# Altium footprint library CeleronLib_Connect.PcbLib: 219 footprints (part 14 of 14)
Each footprint in its own frame and in the unit in brackets; x right, y up, seen from the top. Pads: shape width x height; smd on the part's side, far side on the other; paste and mask are expansions set on the pad; w line width, h text height; cw(c..) or ccw(c..) is an arc to the next point about the centre after c.
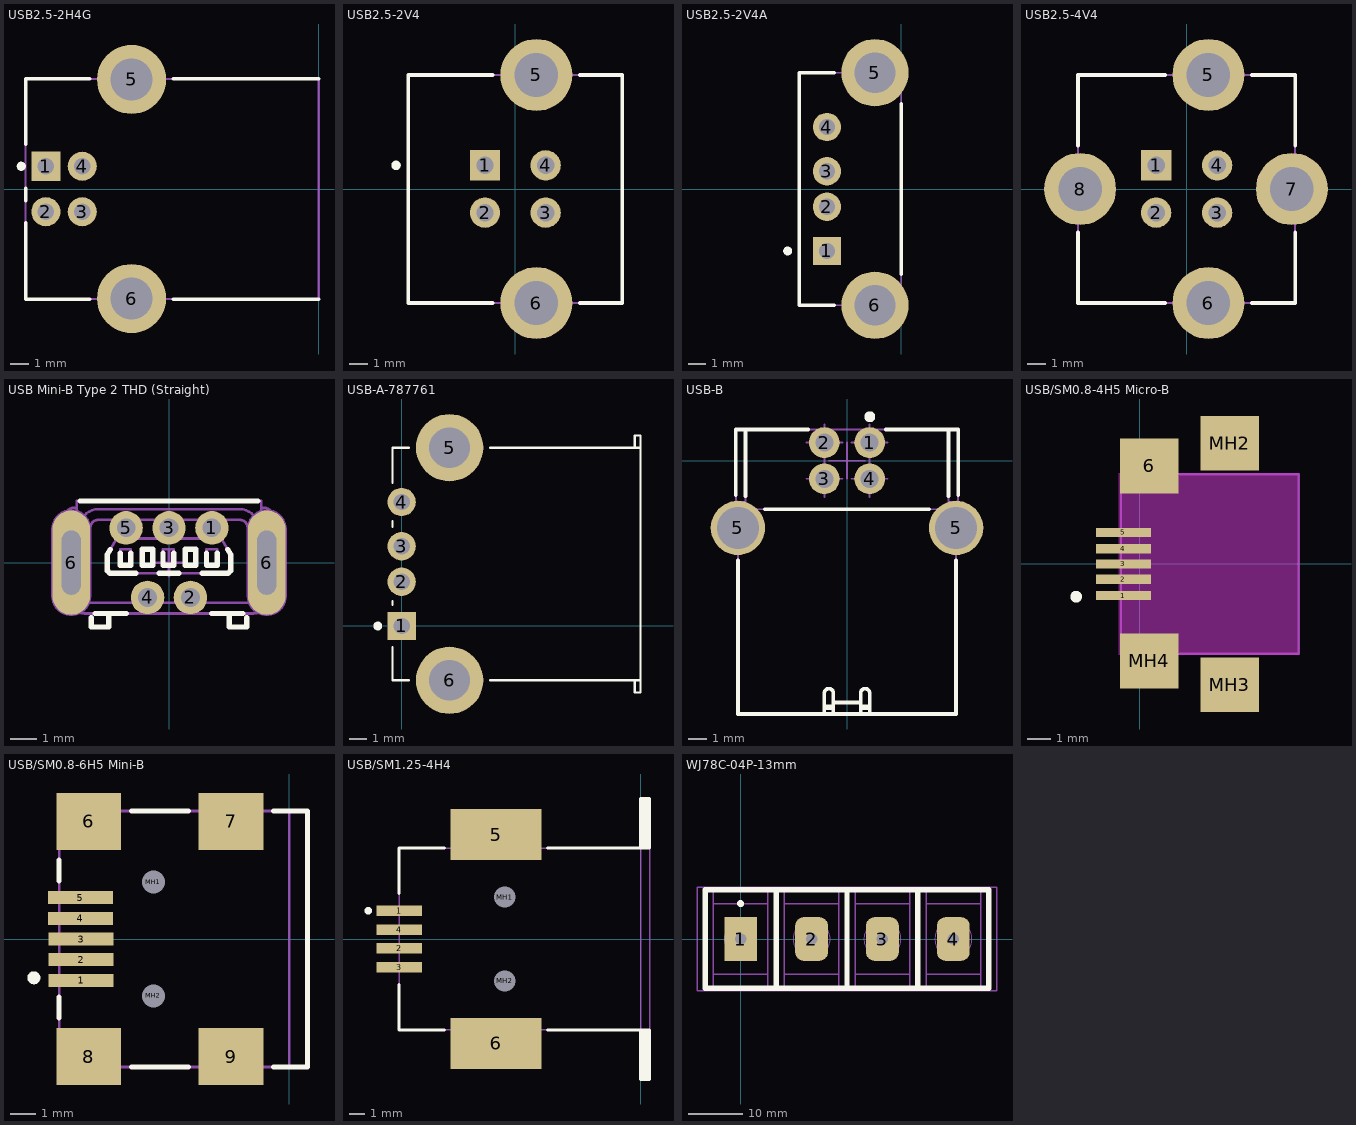
[diagram p13: the footprints below, top view; thin cyan lines are the x and y axes]

## USB2.5-2H4G [mm] "Connector; USB1.1, Type B, Thru-Hole; 4 Position; Right Angle"
height 10.95
pads (6):
  rect 1.6x1.6 hole 0.92: 1(-15.01,1.25)
  round 1.6 hole 0.92: 2(-15.01,-1.25) 3(-13.01,-1.25) 4(-13.01,1.25)
  round 3.8 hole 2.3: 5(-10.3,6.02) 6(-10.3,-6.02)
Top Overlay:
  circle w0.25: c-16.36,1.25 r0.125
  lines w0.2: -16.12,-1.85 -16.12,-6.05 -12.6,-6.05 ; -16.12,-0.65 -16.12,0.05 ; -16.12,2.45 -16.12,6.05 -12.6,6.05 ; -8,-6.05 -0.02,-6.05 ; -8,6.05 -0.02,6.05
Remarks:
  lines w0.1: 0,-6.05 0,6.05
  text "PCB Edge" at -0.325,-5.651 h0.25
Top 3D:
  lines w0.1: -16.12,-6.05 -0.02,-6.05 -0.02,6.05 -16.12,6.05 -16.12,-6.05
3D body: height 10.95, standoff 0, extent -16.12,-6.05 -0.02,6.05

## USB2.5-2V4 [mm] "Connector; USB1.1, Type B, Thru-Hole; 4 Position; Vertical"
height 16
pads (6):
  rect 1.6x1.6 hole 0.92: 1(-1.6,1.25)
  round 1.6 hole 0.92: 2(-1.6,-1.25) 3(1.6,-1.25) 4(1.6,1.25)
  round 3.8 hole 2.3: 5(1.11,6.02) 6(1.11,-6.02)
Top Overlay:
  circle w0.25: c-6.3,1.25 r0.125
  lines w0.2: -1.19,-6.02 -5.65,-6.02 -5.65,6.02 -1.19,6.02 ; 3.41,-6.02 5.65,-6.02 5.65,6.02 3.41,6.02
Top 3D:
  lines w0.1: -5.65,-6.02 5.65,-6.02 5.65,6.02 -5.65,6.02 -5.65,-6.02
3D body: height 16, standoff 0, extent -5.65,-6.02 5.65,6.02

## USB2.5-2V4A [mm] "Connector; USB1.1, Type A, Thru-Hole; 4 Position; Vertical"
height 15
pads (6):
  rect 1.6x1.6 hole 0.92: 1(-4.19,-3.5)
  round 1.6 hole 0.92: 2(-4.19,-1) 3(-4.19,1) 4(-4.19,3.5)
  round 3.8 hole 2.3: 5(-1.48,6.57) 6(-1.48,-6.57)
Top Overlay:
  circle w0.25: c-6.41,-3.5 r0.125
  lines w0.2: -3.78,-6.57 -5.76,-6.57 -5.76,6.57 -3.78,6.57 ; 0,-4.81 0,4.81
Top 3D:
  lines w0.1: -5.76,-6.57 0,-6.57 0,6.57 -5.76,6.57 -5.76,-6.57
3D body: height 15, standoff 0, extent -5.76,-6.57 0,6.57

## USB2.5-4V4 [mm] "Connector; USB1.1, Type B, Thru-Hole; 4 Position; Vertical"
height 15.62
pads (8):
  rect 1.6x1.6 hole 0.92: 1(-1.61,1.25)
  round 1.6 hole 0.92: 2(-1.61,-1.25) 3(1.61,-1.25) 4(1.61,1.25)
  round 3.8 hole 2.3: 5(1.15,6.02) 6(1.15,-6.02) 7(5.56,0) 8(-5.63,0)
Top Overlay:
  lines w0.2: -5.73,-2.3 -5.73,-6.02 -1.15,-6.02 ; -5.73,2.3 -5.73,6.02 -1.15,6.02 ; 3.45,-6.02 5.73,-6.02 5.73,-2.3 ; 3.45,6.02 5.73,6.02 5.73,2.3
Top 3D:
  lines w0.1: -5.73,-6.02 5.73,-6.02 5.73,6.02 -5.73,6.02 -5.73,-6.02
3D body: height 15.62, standoff 0, extent -5.73,-6.02 5.73,6.02

## USB Mini-B Type 2 THD (Straight) [mm] "Straight, USB Serie Mini-B Type 2 Through Hole Receptacle"
height 7.7
pads (7):
  round 1.25 hole 0.7: 1(1.6,1.3) 2(0.8,-1.3) 3(0,1.3) 4(-0.8,-1.3) 5(-1.6,1.3)
  oval 1.4x3.9 hole 0.7 slot 2.4 at 90 deg: 6(-3.65,0) 6(3.65,0)
Top Overlay:
  lines w0.2: -3.322,2.3 3.322,2.3 ; -2.9,-2.055 -2.9,-2.4 -2.25,-2.4 -2.25,-1.9 ; -2.763,-1.9 -1.6,-1.9 ; -2.189,0.492 -2.3,0.3 -2.3,-0.3 -2.2,-0.4 -1.236,-0.4 ; -1.825,0.35 -1.825,-0.1 -1.425,-0.1 -1.425,0.35 ; -0.364,-0.4 0.364,-0.4 ; -0.225,0.35 -0.225,-0.1 0.175,-0.1 0.175,0.35 ; 1.236,-0.4 2.2,-0.4 ; 1.4,0.35 1.4,-0.1 1.8,-0.1 1.8,0.35 ; 1.6,-1.9 2.763,-1.9 ; 2.189,0.492 2.3,0.3 2.3,-0.3 ; 2.25,-1.9 2.25,-2.4 2.9,-2.4 2.9,-2.055 ; 2.2,-0.4 2.3,-0.3 ; 2.2,-0.4 2.3,-0.3 ; -1,-0.1 -1,0.5 -0.6,0.5 -0.6,-0.1 -1,-0.1 ; 0.6,-0.1 0.6,0.5 1,0.5 1,-0.1 0.6,-0.1
Mechanical 8:
  lines w0.1: -4.15,0 -3.65,0 ; -3.65,-0.5 -3.65,0 ; -3.65,0.5 -3.65,0 ; -3.15,0 -3.65,0 ; -2.1,1.3 -1.6,1.3 ; -1.6,0.8 -1.6,1.3 ; -1.6,1.8 -1.6,1.3 ; -1.3,-1.3 -0.8,-1.3 ; -1.1,1.3 -1.6,1.3 ; -0.8,-1.8 -0.8,-1.3 ; -0.8,-0.8 -0.8,-1.3 ; -0.5,0 0,0 ; -0.5,1.3 0,1.3 ; -0.3,-1.3 -0.8,-1.3 ; 0,-0.5 0,0 ; 0,0.5 0,0 ; 0,0.8 0,1.3 ; 0,1.8 0,1.3 ; 0.3,-1.3 0.8,-1.3 ; 0.5,0 0,0 ; 0.5,1.3 0,1.3 ; 0.8,-1.8 0.8,-1.3 ; 0.8,-0.8 0.8,-1.3 ; 1.1,1.3 1.6,1.3 ; 1.3,-1.3 0.8,-1.3 ; 1.6,0.8 1.6,1.3 ; 1.6,1.8 1.6,1.3 ; 2.1,1.3 1.6,1.3 ; 3.15,0 3.65,0 ; 3.65,-0.5 3.65,0 ; 3.65,0.5 3.65,0 ; 4.15,0 3.65,0 ; -4.35,-1.25 ccw(c-3.65,-1.25) -2.95,-1.25 -2.95,1.25 ccw(c-3.65,1.25) -4.35,1.25 -4.35,-1.25 ; -3.975,-0.875 ccw(c-3.65,-0.875) -3.325,-0.875 -3.325,0.875 ccw(c-3.65,0.875) -3.975,0.875 -3.975,-0.875 ; 2.95,-1.25 ccw(c3.65,-1.25) 4.35,-1.25 4.35,1.25 ccw(c3.65,1.25) 2.95,1.25 2.95,-1.25 ; 3.325,-0.875 ccw(c3.65,-0.875) 3.975,-0.875 3.975,0.875 ccw(c3.65,0.875) 3.325,0.875 3.325,-0.875
Top Assy:
  lines w0.1: -3.45,0.288 -3.45,2.3 3.45,2.3 3.45,0.288 ; -3.45,2.05 -3.55,2.05 ccw(c-3.55,1.75) -3.85,1.75 -3.85,-0.403 ; -2.9,-1.9 -2.9,-2.4 -2.25,-2.4 -2.25,-1.9 ; 2.25,-1.9 2.25,-2.4 2.9,-2.4 2.9,-1.9 ; 3.45,2.05 3.55,2.05 cw(c3.55,1.75) 3.85,1.75 3.85,-0.403 ; -3.85,-0.403 cw(c-3.15,-0.403) -3.647,0.089 -3.422,0.317 ccw(c-3.635,0.528) -3.335,0.528 -3.335,1.3 cw(c-2.635,1.3) -2.635,2 2.635,2 cw(c2.635,1.3) 3.335,1.3 3.335,0.528 ccw(c3.635,0.528) 3.422,0.317 3.647,0.089 cw(c3.15,-0.403) 3.85,-0.403 ; -3.85,-0.403 -3.85,-1.2 ccw(c-3.15,-1.2) -3.15,-1.9 3.15,-1.9 ccw(c3.15,-1.2) 3.85,-1.2 3.85,-0.403 ; 2.2,-0.4 2.3,-0.3 ; 2.2,-0.4 -2.2,-0.4 -2.3,-0.3 -2.3,0.3 -1.838,1.1 -1.318,1.1 -1.118,0.9 1.118,0.9 1.318,1.1 1.838,1.1 2.3,0.3 2.3,-0.3 ; 2.2,-0.4 2.3,-0.3 ; -3.45,-1.2 ccw(c-3.15,-1.2) -3.15,-1.5 3.15,-1.5 ccw(c3.15,-1.2) 3.45,-1.2 3.45,-0.403 ccw(c3.15,-0.403) 3.363,-0.192 3.138,0.035 cw(c3.635,0.528) 2.935,0.528 2.935,1.3 ccw(c2.635,1.3) 2.635,1.6 -2.635,1.6 ccw(c-2.635,1.3) -2.935,1.3 -2.935,0.528 cw(c-3.635,0.528) -3.138,0.035 -3.363,-0.192 ccw(c-3.15,-0.403) -3.45,-0.403 -3.45,-1.2 ; -1.825,-0.1 -1.825,0.5 -1.425,0.5 -1.425,-0.1 -1.825,-0.1 ; -1,-0.1 -1,0.5 -0.6,0.5 -0.6,-0.1 -1,-0.1 ; -0.225,-0.1 -0.225,0.5 0.175,0.5 0.175,-0.1 -0.225,-0.1 ; 0.6,-0.1 0.6,0.5 1,0.5 1,-0.1 0.6,-0.1 ; 1.4,-0.1 1.4,0.5 1.8,0.5 1.8,-0.1 1.4,-0.1
3D body: height 7.7, standoff -2.1, extent -3.85,-2.4 3.85,2.3

## USB-A-787761 [mm] "Connector; USB1.1, Type A, Thru-Hole; 4 Position; Right Angle"
height 7.01
pads (6):
  rect 1.6x1.6 hole 0.92: 1(0,0)
  round 1.6 hole 0.92: 2(0,2.5) 3(0,4.5) 4(0,7)
  round 3.8 hole 2.3: 5(2.71,10.07) 6(2.71,-3.07)
Top Overlay:
  circle w0.25: c-1.35,0 r0.125
  lines w0.127: -0.51,-1.2 -0.51,-3.065 0.41,-3.065 ; -0.51,1.2 -0.51,1.41 ; -0.51,5.59 -0.51,5.91 ; -0.51,8.09 -0.51,10.065 0.41,10.065 ; 5.01,-3.065 13.49,-3.065 ; 5.01,10.065 13.49,10.065 ; 13.17,-3.065 13.17,-3.75 13.49,-3.75 13.49,-3.065 ; 13.17,10.065 13.17,10.75 13.49,10.75 13.49,10.065 ; 13.49,-3.065 13.49,10.065

## USB-B [mm] "Thru Hole, Right Angle, 4 Position, Type B, USB Receptacle"
height 11.5
pads (6):
  round 1.7 hole 1: 1(1.25,1) 2(-1.25,1) 3(-1.25,-1) 4(1.25,-1)
  round 3 hole 2.3: 5(-6.02,-3.71) 5(6.02,-3.71)
Top Overlay:
  circle w0.3: c1.257,2.427 r0.15
  lines w0.2: -6.13,-1.913 -6.13,1.72 -2.147,1.72 ; -6.018,-5.51 -6.018,-13.98 6.018,-13.98 6.018,-5.51 ; -5.6,-1.96 -5.6,1.72 ; -4.544,-2.68 4.544,-2.68 ; -1.25,-13.98 -1.25,-12.832 cw(c-1,-12.83) -0.75,-12.832 -0.75,-13.98 ; -1.25,-13.662 -0.75,-13.662 ; -1.25,-13.568 -0.75,-13.568 ; -0.75,-13.342 0.75,-13.342 ; 0.75,-13.98 0.75,-12.832 cw(c1,-12.83) 1.25,-12.832 1.25,-13.98 ; 0.75,-13.662 1.25,-13.662 ; 0.75,-13.568 1.25,-13.568 ; 2.147,1.72 6.13,1.72 6.13,-1.913 ; 5.6,-1.96 5.6,1.72
Mechanical 8:
  lines w0.1: -7.02,-3.71 -6.02,-3.71 ; -6.02,-4.71 -6.02,-3.71 ; -6.02,-2.71 -6.02,-3.71 ; -5.02,-3.71 -6.02,-3.71 ; -2.25,-1 -1.25,-1 ; -2.25,1 -1.25,1 ; -1.25,-2 -1.25,-1 ; -1.25,2 -1.25,1 ; -1,0 0,0 ; -0.25,-1 -1.25,-1 ; -0.25,1 -1.25,1 ; 0,-1 0,0 ; 0,1 0,0 ; 0.25,-1 1.25,-1 ; 0.25,1 1.25,1 ; 1,0 0,0 ; 1.25,-2 1.25,-1 ; 1.25,2 1.25,1 ; 2.25,-1 1.25,-1 ; 2.25,1 1.25,1 ; 5.02,-3.71 6.02,-3.71 ; -1.25,-1 -1.25,0 -1.25,1 ; 1.25,-1 1.25,0 1.25,1 ; 6.02,-4.71 6.02,-3.71 ; 6.02,-4.71 6.02,-3.71 ; 6.02,-4.71 6.02,-3.71 ; 6.02,-3.71 7.02,-3.71 ; 6.02,-3.71 6.02,-2.71 ; 6.02,-3.71 7.02,-3.71 ; 6.02,-3.71 6.02,-2.71 ; 6.02,-3.71 7.02,-3.71 ; 6.02,-3.71 6.02,-2.71
Top Assy:
  lines w0.1: -6.13,-4.608 -6.13,-4.81 -6.018,-5.057 ; -6.018,-4.619 -7.096,-4.511 ; -6.018,-2.781 -7.096,-2.889 ; -5.6,-2.68 -5.6,1.72 ; -5.6,-2.28 -6.13,-2.28 -6.13,1.72 6.13,1.72 6.13,-2.28 5.6,-2.28 ; -1.25,-13.98 -1.25,-12.832 cw(c-1,-12.83) -0.75,-12.832 -0.75,-13.98 ; -1.25,-13.662 -0.75,-13.662 ; -1.25,-13.568 -0.75,-13.568 ; -0.75,-13.342 0.75,-13.342 ; 0.75,-13.98 0.75,-12.832 cw(c1,-12.83) 1.25,-12.832 1.25,-13.98 ; 0.75,-13.662 1.25,-13.662 ; 0.75,-13.568 1.25,-13.568 ; 5.6,-2.68 5.6,1.72 ; 6.018,-5.057 6.13,-4.81 6.13,-4.608 ; 6.018,-4.619 7.096,-4.511 ; 6.018,-2.781 7.096,-2.889 ; -7.096,-4.511 -7.162,-4.5 -7.192,-4.486 -7.195,-4.479 -7.195,-2.921 -7.192,-2.914 -7.162,-2.9 -7.096,-2.889 ; -7.096,-4.511 -7.096,-2.889 ; 7.096,-4.511 7.162,-4.5 7.192,-4.486 7.195,-4.479 7.195,-2.921 7.192,-2.914 7.162,-2.9 7.096,-2.889 ; 7.096,-4.511 7.096,-2.889 ; -6.018,-13.98 6.018,-13.98 6.018,-2.68 -6.018,-2.68 -6.018,-13.98
3D body: height 11.5, standoff -3.93, extent -7.194,-13.98 7.195,1.72

## USB/SM0.8-4H5 Micro-B [mm] "Connector; USB Mini-B, Sinking Type, SM; 5 Position; Right Angle"
height 0.65
pads (9):
  rect 2.35x0.4 smd: 1(-0.7,-1.35) 2(-0.7,-0.65) 3(-0.7,0) 4(-0.7,0.65) 5(-0.7,1.35)
  rect 2.5x2.35 smd: 6(0.4,4.2) MH2(3.863,5.175) MH3(3.863,-5.175) MH4(0.4,-4.15)
Top Overlay:
  circle w0.25: c-2.725,-1.4 r0.125
Keep-Out Layer:
  rectangle: -0.9,-3.9 6.813,3.9
Top 3D:
  lines w0.1: -0.8,-3.85 -0.8,3.85 6.813,3.85 6.813,-3.85 -0.8,-3.85
3D body: height 2.8, standoff 0, extent -0.9,-3.8 6.801,3.838

## USB/SM0.8-6H5 Mini-B [mm] "Connector; USB2.0 Mini-B, Type B, SM; 5 Position; Right Angle"
height 3.9
pads (11):
  rect 2.5x0.5 smd: 1(-8.05,-1.6) 2(-8.05,-0.8) 3(-8.05,0) 4(-8.075,0.8) 5(-8.075,1.6)
  rect 2.5x2.2 smd: 6(-7.75,4.55) 7(-2.25,4.55) 8(-7.75,-4.55) 9(-2.25,-4.55)
  round 0.6 hole 0.9 unplated: MH1(-5.25,2.2) MH2(-5.25,-2.2)
Top Overlay:
  circle w0.25: c-9.875,-1.5 r0.125
  lines w0.2: -8.9,-3.05 -8.9,-2.25 ; -8.9,2.25 -8.9,3.05 ; -6.1,-4.95 -3.9,-4.95 ; -6.1,4.95 -3.9,4.95 ; -0.6,-4.95 0.7,-4.95 0.7,4.95 -0.6,4.95
Remarks:
  lines w0.1: 0,-4.95 0,4.95
  text "PCB Edge" at 0.432,-4.036 h0.25
Top 3D:
  lines w0.1: -8.9,-4.95 0.7,-4.95 0.7,4.95 -8.9,4.95 -8.9,-4.95
3D body: height 3.9, standoff 0, extent -8.9,-4.95 0.7,4.95

## USB/SM1.25-4H4 [mm] "Connector; USB1.1, Type B, SM; 4 Position; Right Angle"
height 11
pads (8):
  rect 3x0.7 smd: 1(-16,1.875) 2(-16,-0.625) 3(-16,-1.875) 4(-16,0.625)
  rect 6.04x3.4 smd: 5(-9.58,6.92) 6(-9.58,-6.92)
  round 1.1 hole 1.4 unplated: MH1(-9,2.775) MH2(-9,-2.775)
Top Overlay:
  circle w0.25: c-18.05,1.875 r0.125
  rectangle: 0,-9.32 0.6,-6.02
  rectangle: 0,6.02 0.6,9.32
  lines w0.2: -16,-3 -16,-6.02 -13,-6.02 ; -16,3 -16,6.02 -13,6.02 ; -6.16,-6.02 0,-6.02 ; -6.16,6.02 0,6.02 ; 0,-6.02 0.6,-6.02 0.6,-9.32 0,-9.32 0,-6.02 ; 0,6.02 0.6,6.02 0.6,9.32 0,9.32 0,6.02
Remarks:
  lines w0.1: 0,-6.02 0,6.02
  text "PCB Edge" at -0.219,-5.75 h0.25
Top 3D:
  lines w0.1: 0,-6.02 0,-9.32 0.6,-9.32 0.6,9.32 0,9.32 0,6.02 ; 0.6,-6.02 -16,-6.02 -16,6.02 0.6,6.02
3D body: height 11, standoff 0, extent 0.001,6.021 0.599,9.319
3D body: height 11, standoff 0, extent 0.001,-9.319 0.599,-6.021
3D body: height 11, standoff 0, extent -15.999,-6.019 0.599,6.019

## WJ78C-04P-13mm [mm] "Клеммник барьерный WJ78C-04P (40A, винт М3, шаг 13мм, 4 контакта)"
height 22
pads (4):
  rect 6x8 hole 2.1: 1(0,0)
  rrect50% 6x8 hole 2.1: 2(13,0) 3(26,0) 4(39,0)
Top Overlay:
  circle w1: c0,6.5 r0.125
  lines w1: 6.5,-9 6.5,9 ; 19.5,-9 19.5,9 ; 32.5,-9 32.5,9 ; -6.5,-9 45.5,-9 45.5,9 -6.5,9 -6.5,-9
Top 3D:
  circle w0.1: c39,0 r3.4
  circle w0.1: c26,0 r3.4
  circle w0.1: c13,0 r3.4
  circle w0.1: c0,0 r0.9
  circle w0.1: c0,0 r3
  circle w0.1: c13,0 r0.9
  circle w0.1: c26,0 r0.9
  circle w0.1: c39,0 r0.9
  lines w0.254: -5,-9.5 -5,9.5 ; -5,-6.5 5,-6.5 ; -5,6.5 5,6.5 ; 5,-9.5 5,9.5 ; 8,-9.5 8,9.5 ; 8,-6.5 18,-6.5 ; 8,6.5 18,6.5 ; 18,-9.5 18,9.5 ; 21,-9.5 21,9.5 ; 21,-6.5 31,-6.5 ; 21,6.5 31,6.5 ; 31,-9.5 31,9.5 ; 34,-9.5 34,9.5 ; 34,-6.5 44,-6.5 ; 34,6.5 44,6.5 ; 44,-9.5 44,9.5 ; -8,-9.5 -8,9.5 47,9.5 47,-9.5 -8,-9.5
3D body: height 12, standoff 10, extent 35.59,-3.41 42.41,3.41
3D body: height 12, standoff 10, extent 9.59,-3.41 16.41,3.41
3D body: height 12, standoff 10, extent 22.59,-3.41 29.41,3.41
3D body: height 12, standoff 10, extent -3.41,-3.41 3.41,3.41
3D body: height 22, standoff 0, extent -7.999,-9.499 -5.001,9.499
3D body: height 22, standoff 0, extent 5.001,-9.499 7.999,9.499
3D body: height 22, standoff 0, extent 18.001,-9.499 20.999,9.499
3D body: height 22, standoff 0, extent 31.001,-9.499 33.999,9.499
3D body: height 22, standoff 0, extent 44.001,-9.499 46.999,9.499
3D body: height 4, standoff 0, extent -4.999,-9.499 4.999,-6.501
3D body: height 10, standoff 0, extent -4.999,-6.499 4.999,6.499
3D body: height 4, standoff 0, extent 8.001,-9.499 17.999,-6.501
3D body: height 4, standoff 0, extent -4.999,6.501 4.999,9.499
3D body: height 10, standoff 0, extent 8.001,-6.499 17.999,6.499
3D body: height 4, standoff 0, extent 8.001,6.501 17.999,9.499
3D body: height 4, standoff 0, extent 21.001,-9.499 30.999,-6.501
3D body: height 10, standoff 0, extent 21.001,-6.499 30.999,6.499
3D body: height 4, standoff 0, extent 34.001,-9.499 43.999,-6.501
3D body: height 4, standoff 0, extent 21.001,6.501 30.999,9.499
3D body: height 10, standoff 0, extent 34.001,-6.499 43.999,6.499
3D body: height 4, standoff 0, extent 34.001,6.501 43.999,9.499
3D body: height 0, standoff -4, extent 38.093,-0.907 39.907,0.907
3D body: height 0, standoff -4, extent 25.093,-0.907 26.907,0.907
3D body: height 0, standoff -4, extent 12.093,-0.907 13.907,0.907
3D body: height 0, standoff -4, extent -0.907,-0.907 0.907,0.907